# Altium schematic symbol library epson-xtal.SchLib: 3 symbols
Pins are listed as number, name and electrical type; pins without a type are passive.

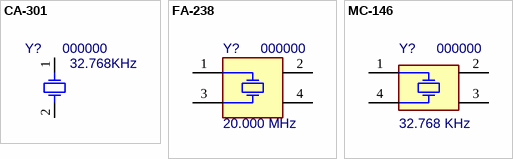
[diagram p0: symbols CA-301 to MC-146]

## CA-301
designator Y?, comment 000000  value 32.768KHz
Cylinder Crystal Unit; MF: Epson; PN: 000000; ExtraInfo: *
footprint CA-301
footprint CA-301-V (Crystal Cylindrical Can, Radial 3.1mmx8.9mm)
pins: 1, 2

## FA-238
designator Y?, comment 000000  value 20.000 MHz
Crystal Oscillator; MF: Epson; PN: 000000; ExtraInfo: *
footprint FA-238
pins: 1, 2, 3, 4

## MC-146
designator Y?, comment 000000  value 32.768 KHz
Crystal Oscillator; MF: Epson; PN: 000000; ExtraInfo: *
footprint MC-146
pins: 1, 2, 3, 4